# EAGLE library part IS31AP4991 (library bats-n-gons)
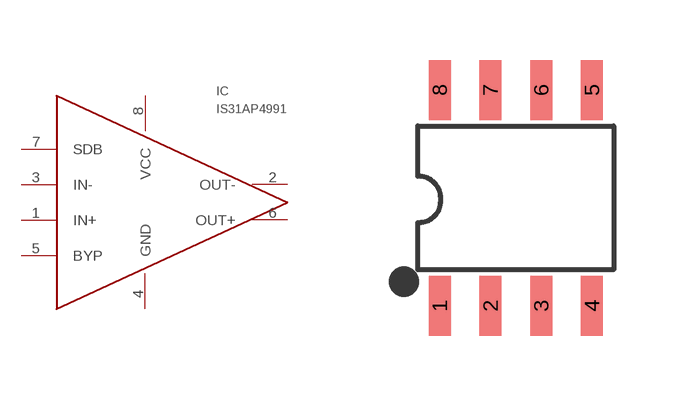
[diagram p2: symbol with the pads of SOIC8; footprint SOIC8]

Designator prefix IC

## IS31AP4991SOIC  [SOIC8]
1  IN+
2  OUT-
3  IN-
4  GND
5  BYP
6  OUT+
7  SDB
8  VCC

## Footprint SOIC8 (pad centres in mm)
smd 0.55 x 1.5: 1 -1.905,-2.7; 2 -0.635,-2.7; 3 0.635,-2.7; 4 1.905,-2.7; 5 1.905,2.7; 6 0.635,2.7; 7 -0.635,2.7; 8 -1.905,2.7